# Altium integrated library Altium Database Library V2.IntLib: 376 symbols (part 10 of 17)

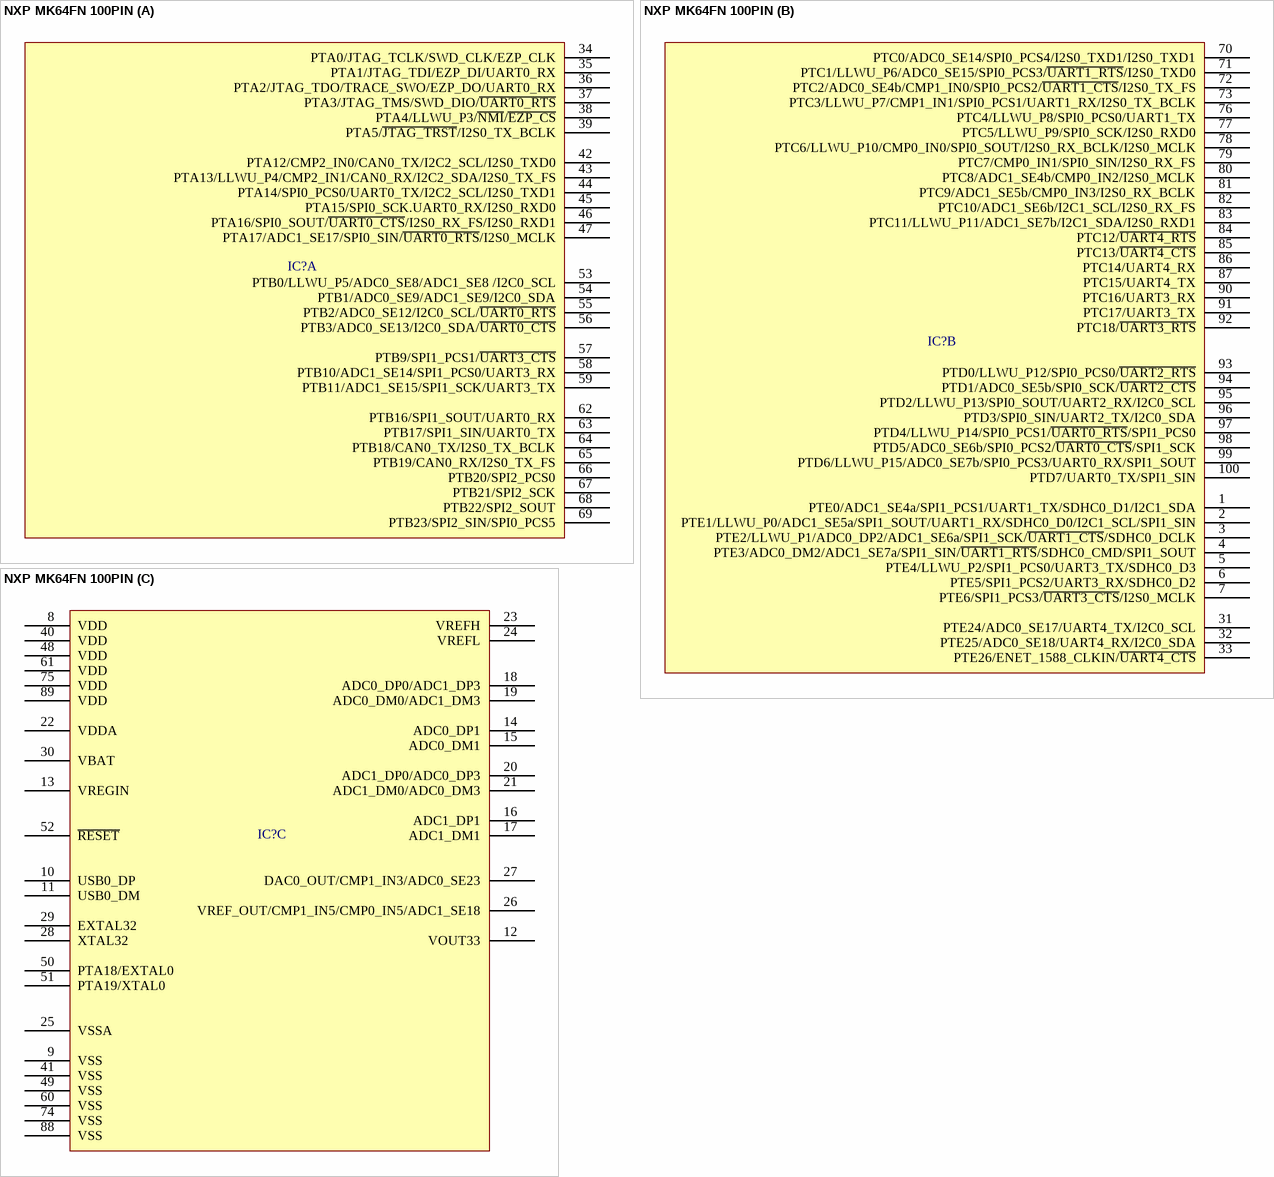
[diagram p207: symbol NXP MK64FN 100PIN]

## NXP MK64FN 100PIN
designator IC?
part A pins: 34 PTA0/JTAG_TCLK/SWD_CLK/EZP_CLK, 35 PTA1/JTAG_TDI/EZP_DI/UART0_RX, 36 PTA2/JTAG_TDO/TRACE_SWO/EZP_DO/UART0_RX, 37 PTA3/JTAG_TMS/SWD_DIO/~{UART0_RTS}, 38 PTA4/LLWU_P3/~{NMI}/~{EZP_CS}, 39 PTA5/~{JTAG_TRST}/I2S0_TX_BCLK, 42 PTA12/CMP2_IN0/CAN0_TX/I2C2_SCL/I2S0_TXD0, 43 PTA13/LLWU_P4/CMP2_IN1/CAN0_RX/I2C2_SDA/I2S0_TX_FS, 44 PTA14/SPI0_PCS0/UART0_TX/I2C2_SCL/I2S0_TXD1, 45 PTA15/SPI0_SCK.UART0_RX/I2S0_RXD0, 46 PTA16/SPI0_SOUT/~{UART0_CTS}/I2S0_RX_FS/I2S0_RXD1, 47 PTA17/ADC1_SE17/SPI0_SIN/~{UART0_RTS}/I2S0_MCLK, 53 PTB0/LLWU_P5/ADC0_SE8/ADC1_SE8 /I2C0_SCL, 54 PTB1/ADC0_SE9/ADC1_SE9/I2C0_SDA, 55 PTB2/ADC0_SE12/I2C0_SCL/~{UART0_RTS}, 56 PTB3/ADC0_SE13/I2C0_SDA/~{UART0_CTS}, 57 PTB9/SPI1_PCS1/~{UART3_CTS}, 58 PTB10/ADC1_SE14/SPI1_PCS0/UART3_RX, 59 PTB11/ADC1_SE15/SPI1_SCK/UART3_TX, 62 PTB16/SPI1_SOUT/UART0_RX, 63 PTB17/SPI1_SIN/UART0_TX, 64 PTB18/CAN0_TX/I2S0_TX_BCLK, 65 PTB19/CAN0_RX/I2S0_TX_FS, 66 PTB20/SPI2_PCS0, 67 PTB21/SPI2_SCK, 68 PTB22/SPI2_SOUT, 69 PTB23/SPI2_SIN/SPI0_PCS5
part B pins: 1 PTE0/ADC1_SE4a/SPI1_PCS1/UART1_TX/SDHC0_D1/I2C1_SDA, 2 PTE1/LLWU_P0/ADC1_SE5a/SPI1_SOUT/UART1_RX/SDHC0_D0/I2C1_SCL/SPI1_SIN, 3 PTE2/LLWU_P1/ADC0_DP2/ADC1_SE6a/SPI1_SCK/~{UART1_CTS}/SDHC0_DCLK, 4 PTE3/ADC0_DM2/ADC1_SE7a/SPI1_SIN/~{UART1_RTS}/SDHC0_CMD/SPI1_SOUT, 5 PTE4/LLWU_P2/SPI1_PCS0/UART3_TX/SDHC0_D3, 6 PTE5/SPI1_PCS2/UART3_RX/SDHC0_D2, 7 PTE6/SPI1_PCS3/~{UART3_CTS}/I2S0_MCLK, 31 PTE24/ADC0_SE17/UART4_TX/I2C0_SCL, 32 PTE25/ADC0_SE18/UART4_RX/I2C0_SDA, 33 PTE26/ENET_1588_CLKIN/~{UART4_CTS}, 70 PTC0/ADC0_SE14/SPI0_PCS4/I2S0_TXD1/I2S0_TXD1, 71 PTC1/LLWU_P6/ADC0_SE15/SPI0_PCS3/~{UART1_RTS}/I2S0_TXD0, 72 PTC2/ADC0_SE4b/CMP1_IN0/SPI0_PCS2/~{UART1_CTS}/I2S0_TX_FS, 73 PTC3/LLWU_P7/CMP1_IN1/SPI0_PCS1/UART1_RX/I2S0_TX_BCLK, 76 PTC4/LLWU_P8/SPI0_PCS0/UART1_TX, 77 PTC5/LLWU_P9/SPI0_SCK/I2S0_RXD0, 78 PTC6/LLWU_P10/CMP0_IN0/SPI0_SOUT/I2S0_RX_BCLK/I2S0_MCLK, 79 PTC7/CMP0_IN1/SPI0_SIN/I2S0_RX_FS, 80 PTC8/ADC1_SE4b/CMP0_IN2/I2S0_MCLK, 81 PTC9/ADC1_SE5b/CMP0_IN3/I2S0_RX_BCLK, 82 PTC10/ADC1_SE6b/I2C1_SCL/I2S0_RX_FS, 83 PTC11/LLWU_P11/ADC1_SE7b/I2C1_SDA/I2S0_RXD1, 84 PTC12/~{UART4_RTS}, 85 PTC13/~{UART4_CTS}, 86 PTC14/UART4_RX, 87 PTC15/UART4_TX, 90 PTC16/UART3_RX, 91 PTC17/UART3_TX, 92 PTC18/~{UART3_RTS}, 93 PTD0/LLWU_P12/SPI0_PCS0/~{UART2_RTS}, 94 PTD1/ADC0_SE5b/SPI0_SCK/~{UART2_CTS}, 95 PTD2/LLWU_P13/SPI0_SOUT/UART2_RX/I2C0_SCL, 96 PTD3/SPI0_SIN/UART2_TX/I2C0_SDA, 97 PTD4/LLWU_P14/SPI0_PCS1/~{UART0_RTS}/SPI1_PCS0, 98 PTD5/ADC0_SE6b/SPI0_PCS2/~{UART0_CTS}/SPI1_SCK, 99 PTD6/LLWU_P15/ADC0_SE7b/SPI0_PCS3/UART0_RX/SPI1_SOUT, 100 PTD7/UART0_TX/SPI1_SIN
part C pins: 8 VDD, 9 VSS, 10 USB0_DP, 11 USB0_DM, 12 VOUT33, 13 VREGIN, 14 ADC0_DP1, 15 ADC0_DM1, 16 ADC1_DP1, 17 ADC1_DM1, 18 ADC0_DP0/ADC1_DP3, 19 ADC0_DM0/ADC1_DM3, 20 ADC1_DP0/ADC0_DP3, 21 ADC1_DM0/ADC0_DM3, 22 VDDA, 23 VREFH, 24 VREFL, 25 VSSA, 26 VREF_OUT/CMP1_IN5/CMP0_IN5/ADC1_SE18, 27 DAC0_OUT/CMP1_IN3/ADC0_SE23, 28 XTAL32, 29 EXTAL32, 30 VBAT, 40 VDD, 41 VSS, 48 VDD, 49 VSS, 50 PTA18/EXTAL0 , 51 PTA19/XTAL0, 52 ~{RESET}, 60 VSS, 61 VDD, 74 VSS, 75 VDD, 88 VSS, 89 VDD


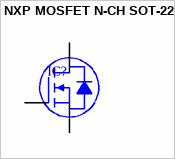
[diagram p208: symbol NXP MOSFET N-CH SOT-223]

## NXP MOSFET N-CH SOT-223
designator IC?
pins: 1 G, 2 D, 3 S, 4 D


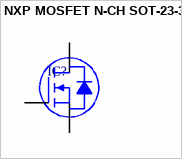
[diagram p209: symbol NXP MOSFET N-CH SOT-23-3]

## NXP MOSFET N-CH SOT-23-3
designator IC?
pins: 1 G, 2 D, 3 S


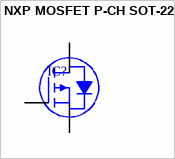
[diagram p210: symbol NXP MOSFET P-CH SOT-223]

## NXP MOSFET P-CH SOT-223
designator IC?
pins: 1 G, 2 D, 3 S, 4 D


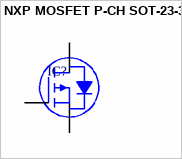
[diagram p211: symbol NXP MOSFET P-CH SOT-23-3]

## NXP MOSFET P-CH SOT-23-3
designator IC?
pins: 1 G, 2 D, 3 S


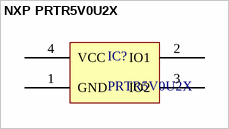
[diagram p212: symbol NXP PRTR5V0U2X]

## NXP PRTR5V0U2X
designator IC?, comment PRTR5V0U2X
Ultra low capacitance double rail-to-rail ESD protection diode
pins: 1 GND, 2 IO1, 3 IO2, 4 VCC


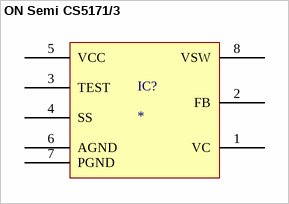
[diagram p213: symbol ON Semi CS5171/3]

## ON Semi CS5171/3
designator IC?
pins: 1 VC, 2 FB, 3 TEST, 4 SS, 5 VCC, 6 AGND, 7 PGND, 8 VSW


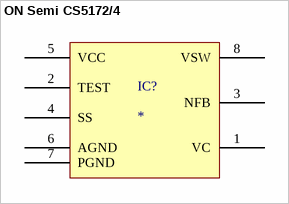
[diagram p214: symbol ON Semi CS5172/4]

## ON Semi CS5172/4
designator IC?
pins: 1 VC, 2 TEST, 3 NFB, 4 SS, 5 VCC, 6 AGND, 7 PGND, 8 VSW


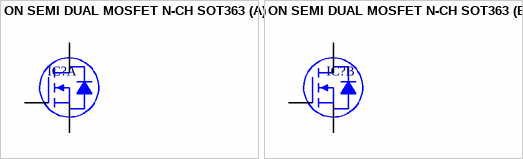
[diagram p215: symbol ON SEMI DUAL MOSFET N-CH SOT363]

## ON SEMI DUAL MOSFET N-CH SOT363
designator IC?
part A pins: 1 S1, 2 G1, 6 D1
part B pins: 3 D2, 4 S2, 5 G2


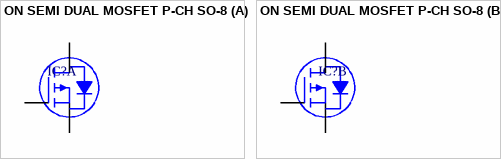
[diagram p216: symbol ON SEMI DUAL MOSFET P-CH SO-8]

## ON SEMI DUAL MOSFET P-CH SO-8
designator IC?
part A pins: 1 S1, 2 G1, 7 D1, 8 D1
part B pins: 3 S2, 4 G2, 5 D2, 6 D2


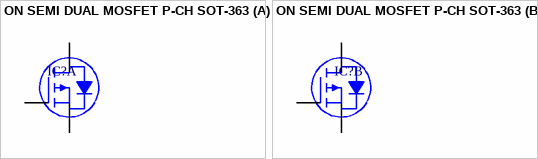
[diagram p217: symbol ON SEMI DUAL MOSFET P-CH SOT-363]

## ON SEMI DUAL MOSFET P-CH SOT-363
designator IC?
part A pins: 1 S1, 2 G1, 6 D1
part B pins: 3 D2, 4 S2, 5 G2


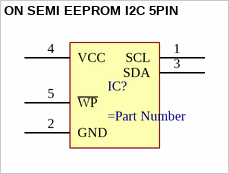
[diagram p218: symbol ON SEMI EEPROM I2C 5PIN]

## ON SEMI EEPROM I2C 5PIN
designator IC?
pins: 1 SCL, 2 GND, 3 SDA, 4 VCC, 5 ~{WP}


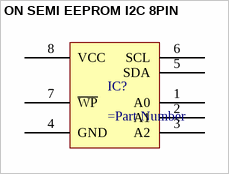
[diagram p219: symbol ON SEMI EEPROM I2C 8PIN]

## ON SEMI EEPROM I2C 8PIN
designator IC?
pins: 1 A0, 2 A1, 3 A2, 4 GND, 5 SDA, 6 SCL, 7 ~{WP}, 8 VCC


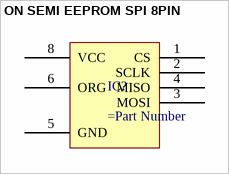
[diagram p220: symbol ON SEMI EEPROM SPI 8PIN]

## ON SEMI EEPROM SPI 8PIN
designator IC?
pins: 1 CS, 2 SCLK, 3 MOSI, 4 MISO, 5 GND, 6 ORG, 8 VCC


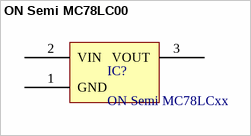
[diagram p221: symbol ON Semi MC78LC00]

## ON Semi MC78LC00
designator IC?, comment ON Semi MC78LCxx
Micropower Voltage  Regulator
pins: 1 GND, 2 VIN, 3 VOUT


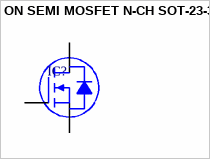
[diagram p222: symbol ON SEMI MOSFET N-CH SOT-23-3]

## ON SEMI MOSFET N-CH SOT-23-3
designator IC?
pins: 1 G, 2 D, 3 S


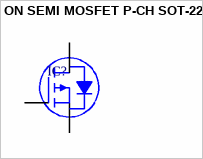
[diagram p223: symbol ON SEMI MOSFET P-CH SOT-223]

## ON SEMI MOSFET P-CH SOT-223
designator IC?
pins: 1 G, 2 D, 3 S, 4 D


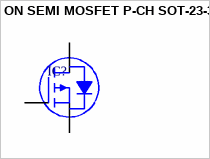
[diagram p224: symbol ON SEMI MOSFET P-CH SOT-23-3]

## ON SEMI MOSFET P-CH SOT-23-3
designator IC?
pins: 1 G, 2 D, 3 S


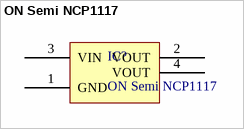
[diagram p225: symbol ON Semi NCP1117]

## ON Semi NCP1117
designator IC?
1.0A Low-Dropout Positive Fixed and Adjustable Voltage Regulators
pins: 1 GND, 2 VOUT, 3 VIN, 4 VOUT


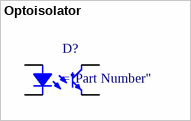
[diagram p226: symbol Optoisolator]

## Optoisolator
designator D?
pins: 1, 2, 3, 4


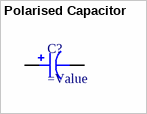
[diagram p227: symbol Polarised Capacitor]

## Polarised Capacitor
designator C?
SMT Polarised Capacitor
pins: 1, 2


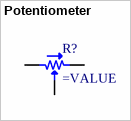
[diagram p228: symbol Potentiometer]

## Potentiometer
designator R?
Potentiometer
pins: 1, 2, 3


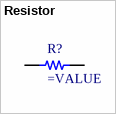
[diagram p229: symbol Resistor]

## Resistor
designator R?
SMT Resistor
pins: 1, 2
